# Altium footprint library Project_LIB.PcbLib: 9 footprints
Each footprint in its own frame and in the unit in brackets; x right, y up, seen from the top. Pads: shape width x height; smd on the part's side, far side on the other; paste and mask are expansions set on the pad; w line width, h text height; cw(c..) or ccw(c..) is an arc to the next point about the centre after c.
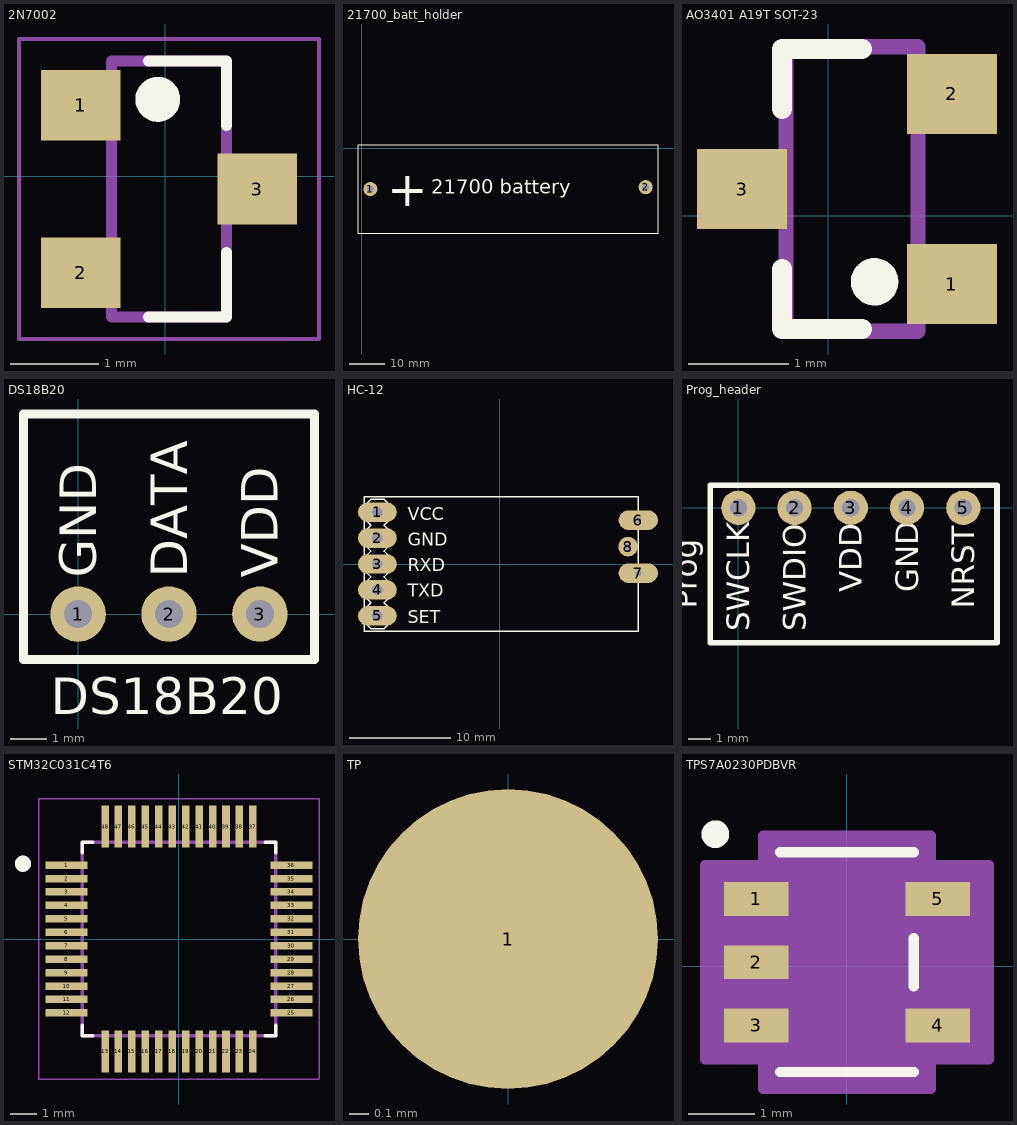
[diagram p0: the footprints below, top view; thin cyan lines are the x and y axes]

## 2N7002 [mm] "N-Channel 60 V 115mA 225mW Surface Mount SOT-23"
pads (3):
  rect 0.9x0.8 smd paste+0 mask+0.102: 1(-0.96,0.806) 2(-0.96,-1.094) 3(1.04,-0.144)
Top Overlay:
  circle w0.254: c-0.087,0.872 r0.127
  lines w0.127: -0.19,-1.594 0.69,-1.594 0.69,-0.864 ; -0.19,1.306 0.69,1.306 0.69,0.576
Assembly Top:
  lines w0.127: -0.61,-1.594 -0.61,1.306 0.69,1.306 0.69,-1.594 -0.61,-1.594
Courtyard Top:
  lines w0.05: -1.66,-1.844 -1.66,1.556 1.74,1.556 1.74,-1.844 -1.66,-1.844
3D body "step_temp.STEP": height 1.3, standoff 0, extent -1.26,-1.664 1.34,1.376

## 21700_batt_holder [mm]
pads (2):
  round 4 hole 2 mask-2539.97: 1(2.5,-11.5) 2(80.5,-11)
Top Overlay:
  lines w0.254: -1,-24 84,-24 84,1 -1,1 -1,-24
  text "+" at 7.254,-16.412 h10
  text "21700 battery" at 19.754,-12.913 h4
Top Solder:
  circle w2: c80.5,-11 r1
  circle w2: c2.5,-11.5 r1
Bottom Solder:
  circle w0.762: c80.5,-11 r0.381
  circle w2: c2.5,-11.5 r1
3D body "21700_holder.STEP": height 24.12, standoff 3.15, extent 0.556,-22.5 82.75,0.773

## AO3401 A19T SOT-23 [mm] "P-channel MOSFET"
pads (3):
  rect 0.9x0.8 smd: 1(1.238,-0.681) 2(1.238,1.219) 3(-0.862,0.269)
Top Overlay:
  circle w0.254: c0.464,-0.659 r0.111
  lines w0.203: -0.462,-0.531 -0.462,-1.131 0.338,-1.131 ; -0.462,1.069 -0.462,1.669 0.338,1.669
Assembly Top:
  lines w0.152: -0.422,-1.153 0.898,-1.153 0.898,1.691 -0.422,1.691 -0.422,-1.153
3D body "step_temp.STEP": height 1.25, standoff 0, extent -1.16,-1.2 1.64,1.7

## DS18B20 [mil]
pads (3):
  round 60 hole 30 mask-99999: 1(0,0)
  round 60 hole 30: 2(98.43,0) 3(196.85,0)
Top Overlay:
  lines w10: -59.06,-49.21 255.91,-49.21 255.91,216.54 -59.06,216.54 -59.06,-49.21
  text "DS18B20" at -29.37,-108.11 h39.37
  text "VDD" at 216.38,39.53 h39.37
  text "DATA" at 117.95,39.53 h39.37
  text "GND" at 19.53,39.53 h39.37
Top Solder:
  circle w30: c0,0 r15
Bottom Solder:
  circle w30: c0,0 r15

## HC-12 [mil]
pads (8):
  oval 150x75 hole 40: 1(-473.11,201.46) 2(-473.11,101.46) 3(-473.11,1.46) 4(-473.11,-98.54) 5(-473.11,-198.54)
  oval 152x76 hole 23.62: 6(534.76,170.75) 7(534.76,-33.98)
  round 76 hole 23.62: 8(495.39,68.39)
Top Overlay:
  lines w5: -524.29,-258.39 -524.29,261.3 534.76,261.3 534.76,-258.39 -524.29,-258.39
  lines w6: -523.11,-223.54 -498.11,-248.54 -448.11,-248.54 -423.11,-223.54 -423.11,-173.54 -448.11,-148.54 -423.11,-123.54 -423.11,-73.54 -448.11,-48.54 -423.11,-23.54 -423.11,26.46 -448.11,51.46 -423.11,76.46 -423.11,126.46 -448.11,151.46 -423.11,176.46 -423.11,226.46 -448.11,251.46 -498.11,251.46 -523.11,226.46 -523.11,176.46 -498.11,151.46 -523.11,126.46 -523.11,76.46 -498.11,51.46 -523.11,26.46 -523.11,-23.54 -498.11,-48.54 -523.11,-73.54 -523.11,-123.54 -498.11,-148.54 -523.11,-173.54 -523.11,-223.54
  text "1" at -539.21,170.16 h50
  text "5" at -538.11,-232.99 h50
  text "VCC" at -356.18,170.75 h50
  text "GND" at -356.18,72.32 h50
  text "RXD" at -356.18,-26.1 h50
  text "TXD" at -356.18,-124.53 h50
  text "SET" at -356.18,-226.89 h50
Assembly Top:
  region: -463.11,91.46 -483.11,91.46 -483.11,111.46 -463.11,111.46
  region: -463.11,191.46 -483.11,191.46 -483.11,211.46 -463.11,211.46
  region: -463.11,-8.54 -483.11,-8.54 -483.11,11.46 -463.11,11.46
  region: -463.11,-208.54 -483.11,-208.54 -483.11,-188.54 -463.11,-188.54
  region: -463.11,-108.54 -483.11,-108.54 -483.11,-88.54 -463.11,-88.54
3D body "step_temp.STEP": height 157.48, standoff 0, extent -518.11,-258.54 560.63,261.14

## Prog_header [mil] "SWDIO programming header"
pads (5):
  round 60 hole 30: 1(0,0) 2(98.43,0) 3(196.85,0) 4(295.28,0) 5(393.7,0)
Top Overlay:
  lines w10: -49.21,-236.22 452.76,-236.22 452.76,39.37 -49.21,39.37 -49.21,-236.22
  text "NRST" at 413.23,-177.01 h39.37
  text "GND" at 314.8,-147.48 h39.37
  text "VDD" at 216.38,-147.48 h39.37
  text "SWCLK" at 19.53,-216.38 h39.37
  text "SWDIO" at 117.95,-216.38 h39.37
  text "Prog" at -72.33,-177.01 h39.37

## STM32C031C4T6 [mm]
pads (48):
  rect 1.56x0.28 smd: 1(-4.18,2.75) 2(-4.18,2.25) 3(-4.18,1.75) 4(-4.18,1.25) 5(-4.18,0.75) 6(-4.18,0.25) 7(-4.18,-0.25) 8(-4.18,-0.75) 9(-4.18,-1.25) 10(-4.18,-1.75) 11(-4.18,-2.25) 12(-4.18,-2.75) 25(4.18,-2.75) 26(4.18,-2.25) 27(4.18,-1.75) 28(4.18,-1.25) 29(4.18,-0.75) 30(4.18,-0.25) 31(4.18,0.25) 32(4.18,0.75) 33(4.18,1.25) 34(4.18,1.75) 35(4.18,2.25) 36(4.18,2.75)
  rect 0.28x1.56 smd: 13(-2.75,-4.18) 14(-2.25,-4.18) 15(-1.75,-4.18) 16(-1.25,-4.18) 17(-0.75,-4.18) 18(-0.25,-4.18) 19(0.25,-4.18) 20(0.75,-4.18) 21(1.25,-4.18) 22(1.75,-4.18) 23(2.25,-4.18) 24(2.75,-4.18) 37(2.75,4.18) 38(2.25,4.18) 39(1.75,4.18) 40(1.25,4.18) 41(0.75,4.18) 42(0.25,4.18) 43(-0.25,4.18) 44(-0.75,4.18) 45(-1.25,4.18) 46(-1.75,4.18) 47(-2.25,4.18) 48(-2.75,4.18)
Top Overlay:
  circle w0.3: c-5.8,2.8 r0.15
  lines w0.127: -3.6,-3.21 -3.6,-3.6 -3.21,-3.6 ; -3.6,3.21 -3.6,3.6 -3.21,3.6 ; 3.21,-3.6 3.6,-3.6 3.6,-3.21 ; 3.21,3.6 3.6,3.6 3.6,3.21
Assembly Top:
  circle w0.3: c-5.796,2.802 r0.15
  lines w0.127: -3.6,-3.6 -3.6,3.6 3.6,3.6 3.6,-3.6 -3.6,-3.6
Courtyard Top:
  lines w0.05: -5.21,-5.21 -5.21,5.21 5.21,5.21 5.21,-5.21 -5.21,-5.21
3D body "step_temp.STEP": height 1.6, standoff 0, extent -4.5,-4.5 4.5,4.5

## TP [mil]
pads (1):
  round 60 all layers, no hole mask-99999: 1(0,0)
Top Solder:
  circle w0: c0,0 r0
Bottom Solder:
  circle w0: c0,0 r0

## TPS7A0230PDBVR [mm] "Package/Case: SOT-23-5 3V"
pads (5):
  rect 0.972x0.508 smd paste+0 mask+0: 1(-1.361,1.015) 2(-1.361,0.065) 3(-1.361,-0.885) 4(1.363,-0.885) 5(1.363,1.015)
Top Overlay:
  circle w0.254: c-1.977,1.987 r0.081
  lines w0.152: -1.002,-1.586 1.004,-1.586 ; -1.002,1.716 1.004,1.716 ; 1.004,-0.298 1.004,0.428
  text ".Designator" at 1.525,1.716 h1.27
Bottom Solder:
  text ".Designator" at 1.525,1.716 h1.27
Assembly Top:
  lines w0.025: -0.304,1.589 ccw(c0.001,1.589) 0.306,1.589 ; -1.498,-1.139 -1.498,-0.631 -0.875,-0.631 -0.875,-1.139 -1.498,-1.139 ; -1.498,-0.189 -1.498,0.319 -0.875,0.319 -0.875,-0.189 -1.498,-0.189 ; -1.498,0.761 -1.498,1.269 -0.875,1.269 -0.875,0.761 -1.498,0.761 ; -0.875,-1.459 -0.875,1.589 0.877,1.589 0.877,-1.459 -0.875,-1.459 ; 0.877,-1.139 0.877,-0.631 1.5,-0.631 1.5,-1.139 0.877,-1.139 ; 0.877,0.761 0.877,1.269 1.5,1.269 1.5,0.761 0.877,0.761
Courtyard Top:
  region: 1.258,-1.84 -1.256,-1.84 -1.256,-1.393 -2.133,-1.393 -2.133,1.523 -1.256,1.523 -1.256,1.97 1.258,1.97 1.258,1.523 2.135,1.523 2.135,-1.393 1.258,-1.393
  lines w0.152: -2.133,-1.393 -2.133,1.523 -1.256,1.523 -1.256,1.97 1.258,1.97 1.258,1.523 2.135,1.523 2.135,-1.393 1.258,-1.393 1.258,-1.84 -1.256,-1.84 -1.256,-1.393 -2.133,-1.393
3D body "SOT23_DBV_TEX.step": height 1.45, standoff 0, extent -1.487,-1.439 1.511,1.609